# EAGLE library part LTC4412 (library SDSURocket-PowerIC)
Linear Technology Low Loss PowerPath™, SOT23-6
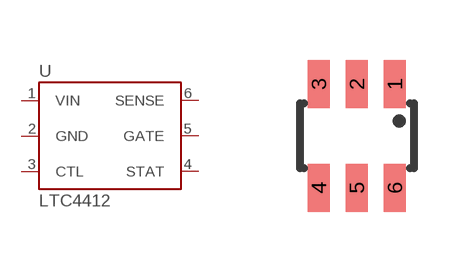
[diagram p0: symbol with the pads of SOT23-6; footprint SOT23-6]

Designator prefix U

## LTC4412HV-SOT-23 (PROD_ID: LTC4412HVIS6; VALUE: LTC4412HV)  [SOT23-6]
1  VIN  pwr
2  GND  pwr
3  CTL
4  STAT
5  GATE
6  SENSE

## Footprint SOT23-6 (pad centres in mm)
smd 0.55 x 1.2: 1 0.95,1.3; 2 0,1.3; 3 -0.95,1.3; 4 -0.95,-1.3; 5 0,-1.3; 6 0.95,-1.3